# EAGLE library part NPD-36-VV-GS (library UsefulConnectors)
Omnetics 36-pin connector, vertical surface-mount
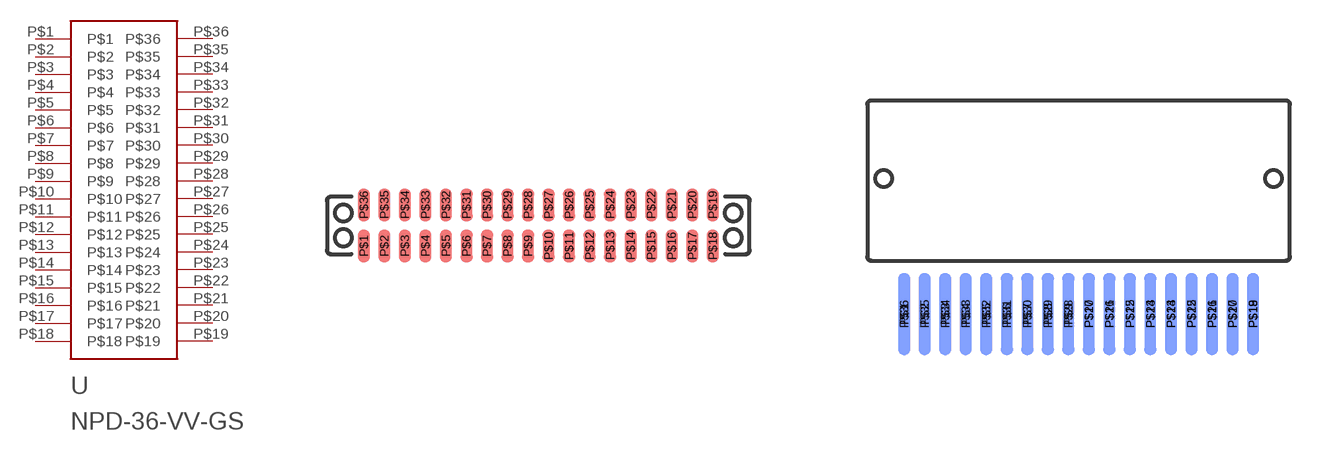
[diagram p3: symbol with the pads of NPD-36-VV-GS; footprints NPD-36-VV-GS, NPD-36-DD-GS]

Designator prefix -

## NPD-36-VV-GS  [NPD-36-VV-GS]
P$1  P$1
P$2  P$2
P$3  P$3
P$4  P$4
P$5  P$5
P$6  P$6
P$7  P$7
P$8  P$8
P$9  P$9
P$10  P$10
P$11  P$11
P$12  P$12
P$13  P$13
P$14  P$14
P$15  P$15
P$16  P$16
P$17  P$17
P$18  P$18
P$19  P$19
P$20  P$20
P$21  P$21
P$22  P$22
P$23  P$23
P$24  P$24
P$25  P$25
P$26  P$26
P$27  P$27
P$28  P$28
P$29  P$29
P$30  P$30
P$31  P$31
P$32  P$32
P$33  P$33
P$34  P$34
P$35  P$35
P$36  P$36

## NPD-36-VV-GSDD  [NPD-36-DD-GS]
Pads as for NPD-36-VV-GS

## Footprint NPD-36-VV-GS (pad centres in mm)
smd 0.381 x 1.016: P$1 0,0; P$2 0.635,0; P$3 1.27,0; P$4 1.905,0; P$5 2.54,0; P$6 3.175,0; P$7 3.81,0; P$8 4.445,0; P$9 5.08,0; P$10 5.715,0; P$11 6.35,0; P$12 6.985,0; P$13 7.62,0; P$14 8.255,0; P$15 8.89,0; P$16 9.525,0; P$17 10.16,0; P$18 10.795,0; P$19 10.795,1.27; P$20 10.16,1.27; P$21 9.525,1.27; P$22 8.89,1.27; P$23 8.255,1.27; P$24 7.62,1.27; P$25 6.985,1.27; P$26 6.35,1.27; P$27 5.715,1.27; P$28 5.08,1.27; P$29 4.445,1.27; P$30 3.81,1.27; P$31 3.175,1.27; P$32 2.54,1.27; P$33 1.905,1.27; P$34 1.27,1.27; P$35 0.635,1.27; P$36 0,1.27

## Footprint NPD-36-DD-GS (pad centres in mm)
smd 0.381 x 2.54: P$1 -5.397,0; P$2 -4.763,0; P$3 -4.128,0; P$4 -3.493,0; P$5 -2.857,0; P$6 -2.223,0; P$7 -1.587,0; P$8 -0.953,0; P$9 -0.318,0; P$10 0.318,0; P$11 0.953,0; P$12 1.587,0; P$13 2.223,0; P$14 2.857,0; P$15 3.493,0; P$16 4.128,0; P$17 4.763,0; P$18 5.397,0
smd 0.381 x 2.54 bottom: P$19 5.397,0; P$20 4.763,0; P$21 4.128,0; P$22 3.493,0; P$23 2.857,0; P$24 2.223,0; P$25 1.587,0; P$26 0.953,0; P$27 0.318,0; P$28 -0.318,0; P$29 -0.953,0; P$30 -1.587,0; P$31 -2.223,0; P$32 -2.857,0; P$33 -3.493,0; P$34 -4.128,0; P$35 -4.763,0; P$36 -5.397,0